# EAGLE library part 3P4T (library mb_switches)
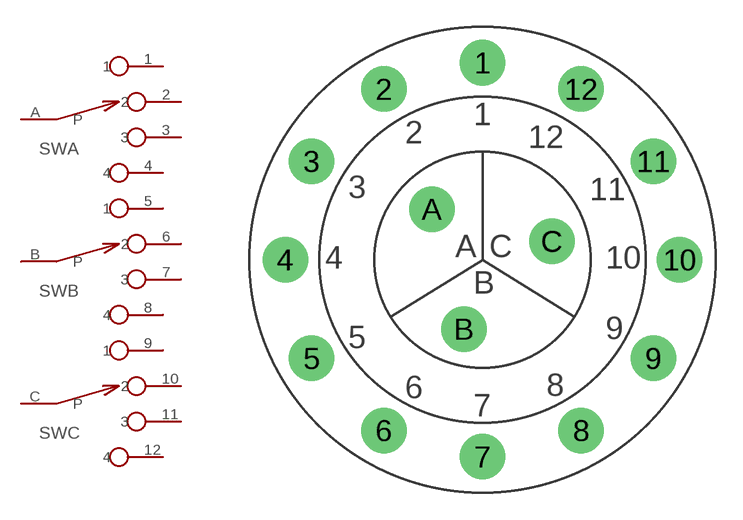
[diagram p4: symbol with the pads of 3D4P; footprint 3D4P]

Designator prefix SW; gates A=SP4W B=SP4W C=SP4W

## 3P4T  [3D4P]
1  A:1  pas
2  A:2  pas
3  A:3  pas
4  A:4  pas
5  B:1  pas
6  B:2  pas
7  B:3  pas
8  B:4  pas
9  C:1  pas
10  C:2  pas
11  C:3  pas
12  C:4  pas
A  A:P  pas
B  B:P  pas
C  C:P  pas

## Footprint 3D4P (pad centres in mm)
drill 1.6 pad 2.54: 1 0,10.999; 2 -5.5,9.526; 3 -9.525,5.5; 4 -10.999,0; 5 -9.525,-5.499; 6 -5.5,-9.525; 7 0,-10.999; 8 5.499,-9.525; 9 9.525,-5.499; 10 10.999,0; 11 9.525,5.499; 12 5.499,9.525; A -2.828,2.828; B -1.035,-3.864; C 3.864,1.035